# EAGLE library part ATTINY2313-20S (library Neel)
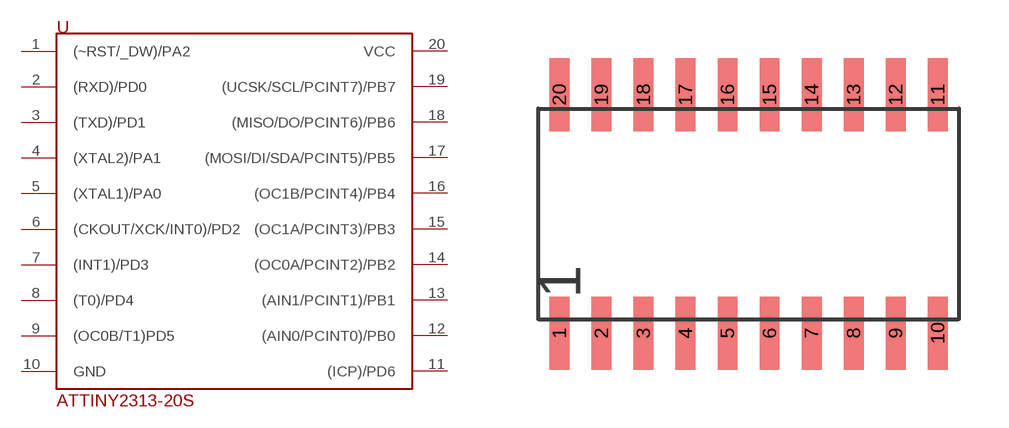
[diagram p9: symbol with the pads of SOIC-20; footprint SOIC-20]

Designator prefix -

## ATTINY2313-20S  [SOIC-20]
1  (~RST/_DW)/PA2
2  (RXD)/PD0
3  (TXD)/PD1
4  (XTAL2)/PA1
5  (XTAL1)/PA0
6  (CKOUT/XCK/INT0)/PD2
7  (INT1)/PD3
8  (T0)/PD4
9  (OC0B/T1)PD5
10  GND
11  (ICP)/PD6
12  (AIN0/PCINT0)/PB0
13  (AIN1/PCINT1)/PB1
14  (OC0A/PCINT2)/PB2
15  (OC1A/PCINT3)/PB3
16  (OC1B/PCINT4)/PB4
17  (MOSI/DI/SDA/PCINT5)/PB5
18  (MISO/DO/PCINT6)/PB6
19  (UCSK/SCL/PCINT7)/PB7
20  VCC

## Footprint SOIC-20 (pad centres in mm)
smd 0.6 x 2.2: 1 0.635,1.48; 2 1.905,1.48; 3 3.175,1.48; 4 4.445,1.48; 5 5.715,1.48; 6 6.985,1.48; 7 8.255,1.48; 8 9.525,1.48; 9 10.795,1.48; 10 12.065,1.48; 11 12.065,8.68; 12 10.795,8.68; 13 9.525,8.68; 14 8.255,8.68; 15 6.985,8.68; 16 5.715,8.68; 17 4.445,8.68; 18 3.175,8.68; 19 1.905,8.68; 20 0.635,8.68